# Altium footprint library EasyPay.PcbLib: 29 footprints (part 1 of 2)
Each footprint in its own frame and in the unit in brackets; x right, y up, seen from the top. Pads: shape width x height; smd on the part's side, far side on the other; paste and mask are expansions set on the pad; w line width, h text height; cw(c..) or ccw(c..) is an arc to the next point about the centre after c.
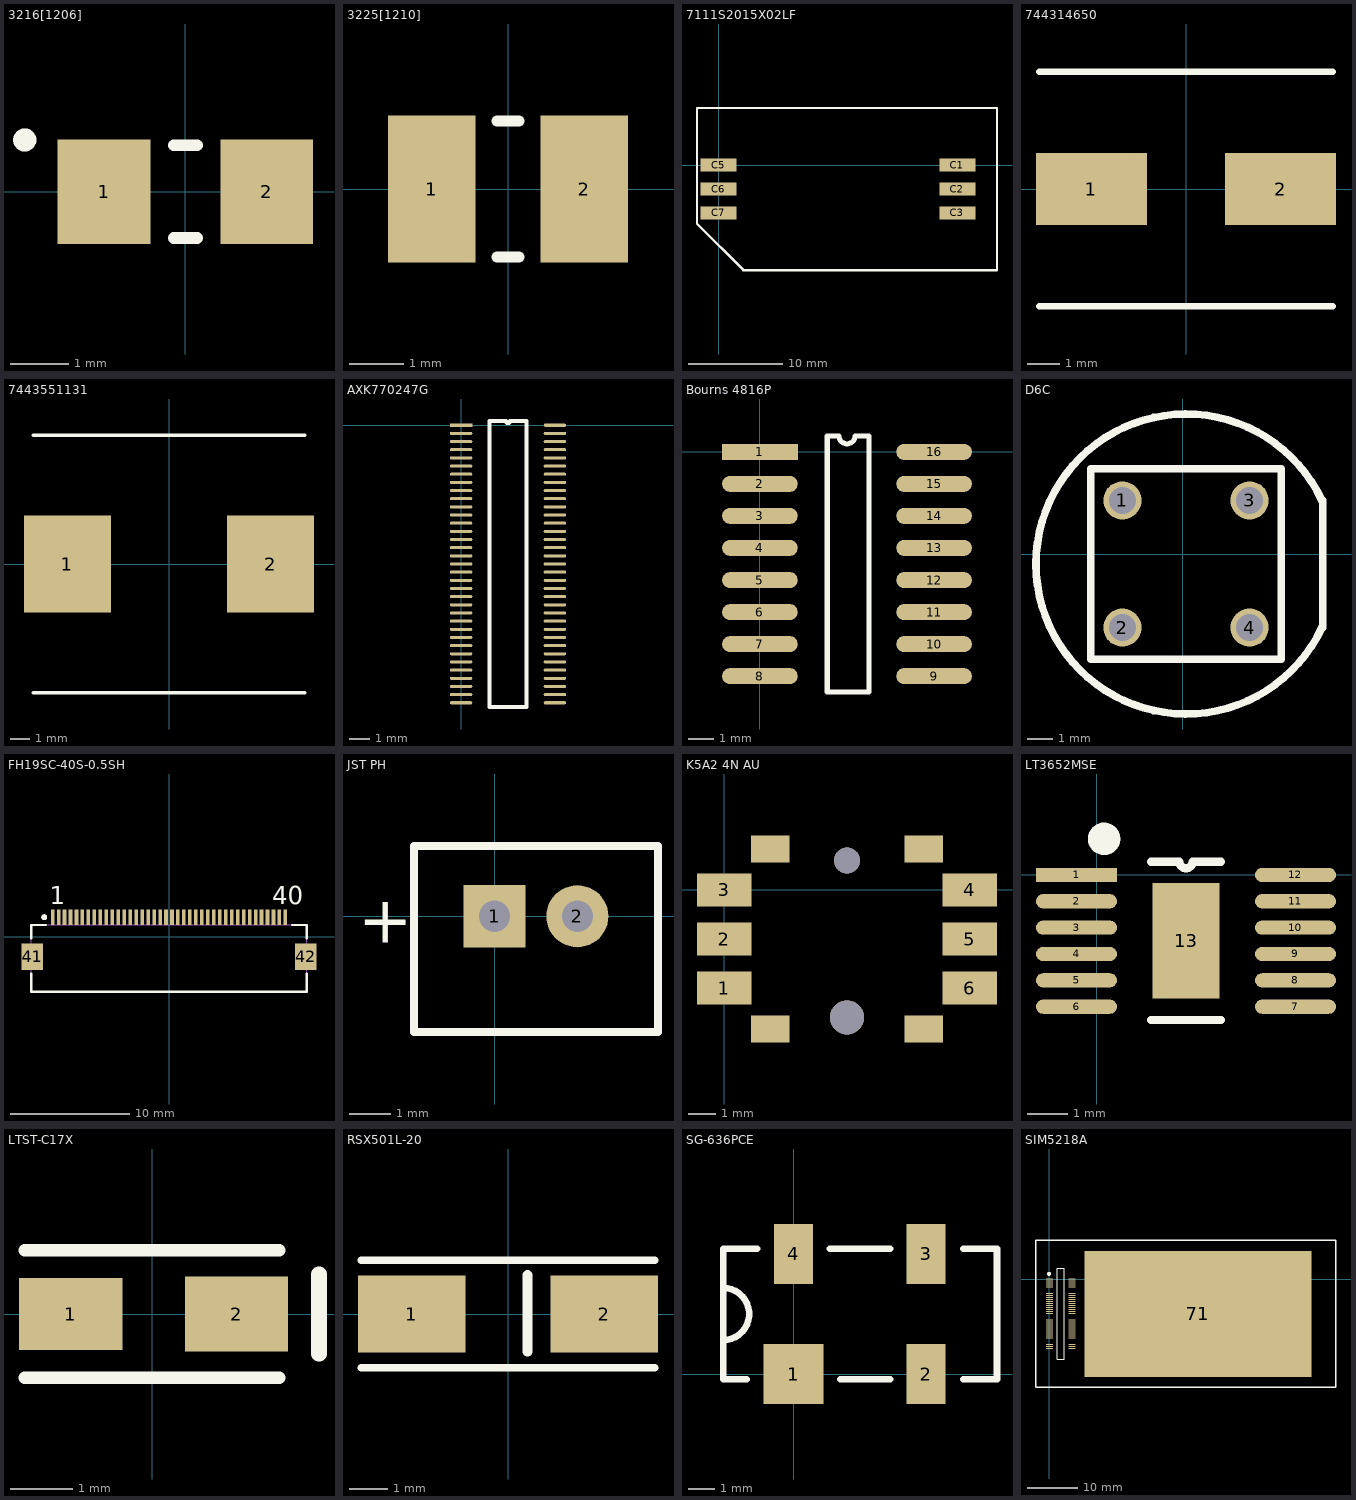
[diagram p0: the footprints below, top view; thin cyan lines are the x and y axes]

## 3216[1206] [mm] "Chip Resistor; Body 3.2 x 1.6 mm (LxW typ)"
height 2.54
pads (2):
  rect 1.6x1.8 smd: 1(-1.4,0) 2(1.4,0)
Top Overlay:
  circle w0.2: c-2.767,0.889 r0.1
  lines w0.2: -0.2,-0.8 0.2,-0.8 ; -0.2,0.8 0.2,0.8

## 3225[1210] [mm] "Chip Resistor; Body 3.2 x 2.5 mm (LxW typ)"
height 0.6
pads (2):
  rect 1.6x2.7 smd: 1(-1.4,0) 2(1.4,0)
Top Overlay:
  lines w0.2: -0.2,-1.25 0.2,-1.25 ; -0.2,1.25 0.2,1.25

## 7111S2015X02LF [mm]
pads (6):
  rect 3.8x1.4 smd: C1(25.3,0) C2(25.3,-2.54) C3(25.3,-5.08) C5(0,0) C6(0,-2.54) C7(0,-5.08)
Top Overlay:
  lines w0.2: -2.286,-6.223 -2.286,6.06 29.464,6.06 ; 29.5,-11.14 29.5,6.06
  lines w0.254: -2.286,-6.223 2.631,-11.14 29.5,-11.14

## 744314650 [mm]
pads (2):
  rect 3.4x2.2 smd: 1(-2.9,0) 2(2.9,0)
Top Overlay:
  lines w0.2: -4.5,-3.6 4.5,-3.6 ; -4.5,3.6 4.5,3.6

## 7443551131 [mm]
pads (2):
  rect 4.5x5 smd: 1(-5.25,0) 2(5.25,0)
Top Overlay:
  lines w0.2: -7,-6.65 7,-6.65 ; -7,6.65 7,6.65

## AXK770247G [mm]
pads (70):
  rect 1.1x0.15 smd: 1(0,0)
  oval 1.1x0.15 smd: 2(0,-0.4) 3(0,-0.8) 4(0,-1.2) 5(0,-1.6) 6(0,-2) 7(0,-2.4) 8(0,-2.8) 9(0,-3.2) 10(0,-3.6) 11(0,-4) 12(0,-4.4) 13(0,-4.8) 14(0,-5.2) 15(0,-5.6) 16(0,-6) 17(0,-6.4) 18(0,-6.8) 19(0,-7.2) 20(0,-7.6) 21(0,-8) 22(0,-8.4) 23(0,-8.8) 24(0,-9.2) 25(0,-9.6) 26(0,-10) 27(0,-10.4) 28(0,-10.8) 29(0,-11.2) 30(0,-11.6) 31(0,-12) 32(0,-12.4) 33(0,-12.8) 34(0,-13.2) 35(0,-13.6) 36(4.6,-13.6) 37(4.6,-13.2) 38(4.6,-12.8) 39(4.6,-12.4) 40(4.6,-12) 41(4.6,-11.6) 42(4.6,-11.2) 43(4.6,-10.8) 44(4.6,-10.4) 45(4.6,-10) 46(4.6,-9.6) 47(4.6,-9.2) 48(4.6,-8.8) 49(4.6,-8.4) 50(4.6,-8) 51(4.6,-7.6) 52(4.6,-7.2) 53(4.6,-6.8) 54(4.6,-6.4) 55(4.6,-6) 56(4.6,-5.6) 57(4.6,-5.2) 58(4.6,-4.8) 59(4.6,-4.4) 60(4.6,-4) 61(4.6,-3.6) 62(4.6,-3.2) 63(4.6,-2.8) 64(4.6,-2.4) 65(4.6,-2) 66(4.6,-1.6) 67(4.6,-1.2) 68(4.6,-0.8) 69(4.6,-0.4) 70(4.6,0)
Top Overlay:
  lines w0.2: 1.385,-13.8 1.385,0.2 2.2,0.2 ccw(c2.3,0.2) 2.4,0.2 3.215,0.2 3.215,-13.8 1.385,-13.8

## Bourns 4816P [mm]
pads (16):
  rect 3x0.635 smd: 1(0,0)
  oval 3x0.635 smd: 2(0,-1.27) 3(0,-2.54) 4(0,-3.81) 5(0,-5.08) 6(0,-6.35) 7(0,-7.62) 8(0,-8.89) 9(6.9,-8.89) 10(6.9,-7.62) 11(6.9,-6.35) 12(6.9,-5.08) 13(6.9,-3.81) 14(6.9,-2.54) 15(6.9,-1.27) 16(6.9,0)
Top Overlay:
  lines w0.2: 2.667,-9.525 4.318,-9.525 4.318,0.635 3.767,0.635 cw(c3.45,0.635) 3.132,0.635 2.667,0.635 2.667,-9.525

## D6C [mil]
pads (4):
  round 60 hole 42: 1(-95,85) 2(-95,-115) 3(105,85) 4(105,-115)
Top Overlay:
  lines w12: 218.75,-114.67 cw(c5,-15) 218.75,84.67 ; 220,-115 220,85 ; -145,-165 -145,135 155,135 155,-165 -145,-165

## FH19SC-40S-0.5SH [mm] "Connector; FH19 Series; 40 Position; 0.5mm Spaced Bottom Contact"
height 2
pads (42):
  rect 0.3x1.3 smd: 1(-9.75,1.625) 2(-9.25,1.625) 3(-8.75,1.625) 4(-8.25,1.625) 5(-7.75,1.625) 6(-7.25,1.625) 7(-6.75,1.625) 8(-6.25,1.625) 9(-5.75,1.625) 10(-5.25,1.625) 11(-4.75,1.625) 12(-4.25,1.625) 13(-3.75,1.625) 14(-3.25,1.625) 15(-2.75,1.625) 16(-2.25,1.625) 17(-1.75,1.625) 18(-1.25,1.625) 19(-0.75,1.625) 20(-0.25,1.625) 21(0.25,1.625) 22(0.75,1.625) 23(1.25,1.625) 24(1.75,1.625) 25(2.25,1.625) 26(2.75,1.625) 27(3.25,1.625) 28(3.75,1.625) 29(4.25,1.625) 30(4.75,1.625) 31(5.25,1.625) 32(5.75,1.625) 33(6.25,1.625) 34(6.75,1.625) 35(7.25,1.625) 36(7.75,1.625) 37(8.25,1.625) 38(8.75,1.625) 39(9.25,1.625) 40(9.75,1.625)
  rect 1.8x2.2 smd: 41(-11.463,-1.676) 42(11.463,-1.676)
Top Overlay:
  circle w0.25: c-10.45,1.625 r0.125
  lines w0.2: -11.55,-3.125 -11.55,-4.625 11.55,-4.625 11.55,-3.125 ; -11.55,-0.125 -11.55,0.975 -10.3,0.975 ; 10.3,0.975 11.55,0.975 11.55,-0.125
  text "1" at -10,2.725 h1.5
  text "40" at 8.65,2.725 h1.5
Mechanical 13:
  lines w0.1: -11.55,-4.625 -11.55,0.975 11.55,0.975 11.55,-4.625 -11.55,-4.625
3D body: height 2, standoff 0, extent -11.55,-4.625 11.55,0.975

## JST PH [mm] "Connector; Header; 2 Position"
pads (2):
  rect 1.5x1.5 hole 0.75: 1(0,0)
  round 1.5 hole 0.75: 2(2,0)
Top Overlay:
  lines w0.2: -1.95,-2.8 -1.95,1.7 3.95,1.7 3.95,-2.8 -1.95,-2.8
  text "+" at -3.302,-0.635 h1.15

## K5A2 4N AU [mm]
pads (12):
  rect 2x1.2 smd: 1(0,-3.6) 2(0,-1.8) 3(0,0) 4(9,0) 5(9,-1.8) 6(9,-3.6)
  rect 1.42x1 smd: ""(1.69,-5.1) ""(1.69,1.5) ""(7.31,-5.1) ""(7.31,1.5)
  round 1.25 hole 1.25: ""(4.5,-4.675)
  round 0.95 hole 0.95: ""(4.5,1.075)

## LT3652MSE [mm]
pads (13):
  rect 2x0.35 smd: 1(-0.5,0)
  oval 2x0.35 smd: 2(-0.5,-0.65) 3(-0.5,-1.3) 4(-0.5,-1.95) 5(-0.5,-2.6) 6(-0.5,-3.25) 7(4.9,-3.25) 8(4.9,-2.6) 9(4.9,-1.95) 10(4.9,-1.3) 11(4.9,-0.65) 12(4.9,0)
  rect 1.651x2.845 smd: 13(2.2,-1.625)
Top Overlay:
  circle w0.4: c0.181,0.889 r0.2
  lines w0.2: 1.335,-3.575 3.065,-3.575 ; 1.335,0.325 2.037,0.325 ccw(c2.2,0.325) 2.362,0.325 3.065,0.325

## LTST-C17X [mm]
pads (2):
  rect 1.65x1.15 smd: 1(-1.3,0)
  rect 1.65x1.2 smd: 2(1.35,0)
Top Overlay:
  lines w0.2: -2.032,-1.016 2.032,-1.016 ; -2.032,1.016 2.032,1.016
  lines w0.254: 2.667,-0.635 2.667,0.635

## RSX501L-20 [mm]
pads (2):
  rect 2.8x2 smd: 1(-2.5,0) 2(2.5,0)
Top Overlay:
  lines w0.2: -3.81,-1.397 3.81,-1.397 ; -3.81,1.397 3.81,1.397
  lines w0.254: 0.508,-0.984 0.508,1.016

## SG-636PCE [mm]
pads (4):
  rect 2.3x2.3 smd: 1(0,0)
  rect 1.5x2.3 smd: 2(5.08,0) 3(5.08,4.6) 4(0,4.6)
Top Overlay:
  lines w0.254: -2.7,1.3 ccw(c-2.7,2.3) -2.7,3.3 ; -1.8,-0.2 -2.7,-0.2 -2.7,4.8 -1.4,4.8 ; 1.4,4.8 3.7,4.8 ; 1.8,-0.2 3.7,-0.2 ; 6.5,-0.2 7.8,-0.2 7.8,4.8 6.5,4.8

## SIM5218A [mm]
pads (71):
  rect 1.45x0.17 smd: 1(0,0)
  oval 1.45x0.17 smd: 2(0,-0.4) 3(0,-0.8) 4(0,-1.2) 5(0,-1.6) 6(0,-2) 7(0,-2.4) 8(0,-2.8) 9(0,-3.2) 10(0,-3.6) 11(0,-4) 12(0,-4.4) 13(0,-4.8) 14(0,-5.2) 15(0,-5.6) 16(0,-6) 17(0,-6.4) 18(0,-6.8) 19(0,-7.2) 20(0,-7.6) 21(0,-8) 22(0,-8.4) 23(0,-8.8) 24(0,-9.2) 25(0,-9.6) 26(0,-10) 27(0,-10.4) 28(0,-10.8) 29(0,-11.2) 30(0,-11.6) 31(0,-12) 32(0,-12.4) 33(0,-12.8) 34(0,-13.2) 35(0,-13.6) 36(4.425,-13.6) 37(4.425,-13.2) 38(4.425,-12.8) 39(4.425,-12.4) 40(4.425,-12) 41(4.425,-11.6) 42(4.425,-11.2) 43(4.425,-10.8) 44(4.425,-10.4) 45(4.425,-10) 46(4.425,-9.6) 47(4.425,-9.2) 48(4.425,-8.8) 49(4.425,-8.4) 50(4.425,-8) 51(4.425,-7.6) 52(4.425,-7.2) 53(4.425,-6.8) 54(4.425,-6.4) 55(4.425,-6) 56(4.425,-5.6) 57(4.425,-5.2) 58(4.425,-4.8) 59(4.425,-4.4) 60(4.425,-4) 61(4.425,-3.6) 62(4.425,-3.2) 63(4.425,-2.8) 64(4.425,-2.4) 65(4.425,-2) 66(4.425,-1.6) 67(4.425,-1.2) 68(4.425,-0.8) 69(4.425,-0.4) 70(4.425,0)
  rect 44.5x24.765 smd: 71(29.1,-6.858)
Top Overlay:
  circle w0.4: c-0.073,1.016 r0.2
  lines w0.2: 1.524,-15.753 2.915,-15.753 2.915,2.154 2.312,2.154 cw(c2.213,2.154) 2.113,2.154 1.524,2.154 1.524,-15.753
  lines w0.254: -2.638,7.589 -2.638,-21.189 56.2,-21.189 56.2,7.589 ; -2.638,7.62 56.2,7.62